# Altium schematic symbol library base.SchLib: 14 symbols
Pins are listed as number, name and electrical type; pins without a type are passive.

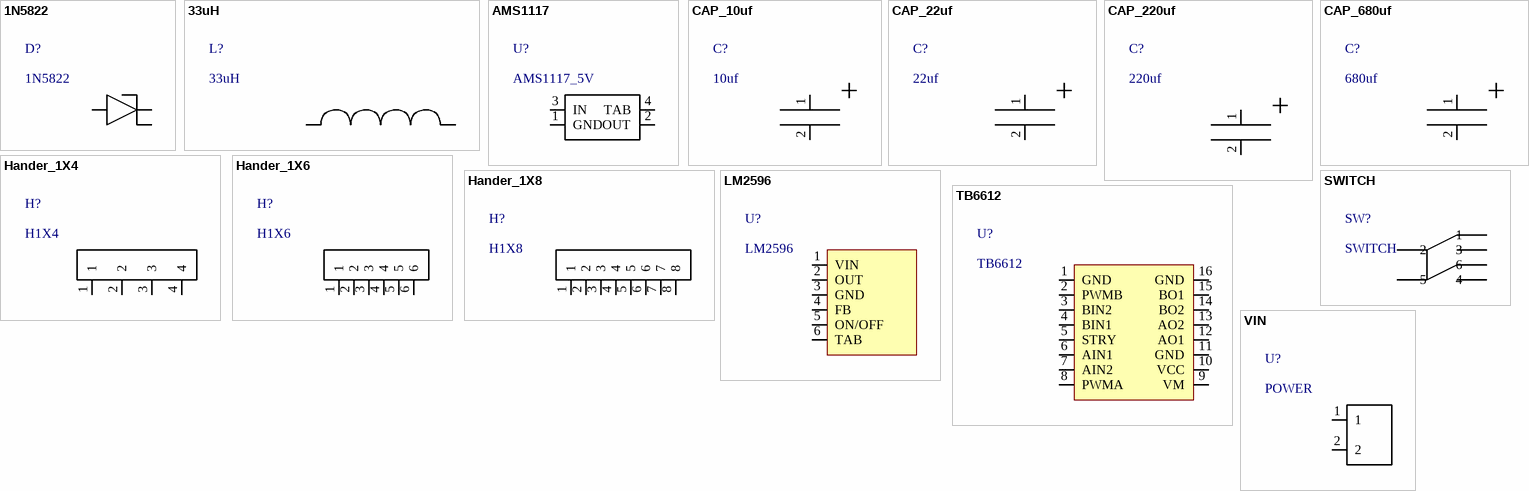
[diagram p0: symbols 1N5822 to VIN]

## 1N5822
designator D?
footprint DO-201AD_BD5.3-L8.4-P12.50-D1.4-RD
pins: 1, 2

## 33uH
designator L?
footprint IND-SMD_L12.5-W12.5_SWRH1207B
pins: 1, 2

## AMS1117
designator U?, comment AMS1117_5V
footprint SOT-223_L6.5-W3.5-P2.30-LS7.0-BR
pins: 1 GND, 2 OUT, 3 IN, 4 TAB

## CAP_10uf
designator C?, comment 10uf
footprint CAP-CASE-A_3216
pins: 1, 2
text: +

## CAP_22uf
designator C?, comment 22uf
footprint CASE-B_3528
pins: 1, 2
text: +

## CAP_220uf
designator C?, comment 220uf
footprint CAP-SMD_BD6.3-L6.6-W6.6-FD
pins: 1, 2
text: +

## CAP_680uf
designator C?, comment 680uf
footprint CAP-SMD_BD10.0-L10.3-W10.3-FD
pins: 1, 2
text: +

## Hander_1X4
designator H?, comment H1X4
footprint HDR-TH_4P-P2.54-V
pins: 1, 2, 3, 4

## Hander_1X6
designator H?, comment H1X6
footprint HDR-TH_6P-P2.54-V
pins: 1, 2, 3, 4, 5, 6

## Hander_1X8
designator H?, comment H1X8
footprint HDR-TH_8P-P2.54-V
pins: 1, 2, 3, 4, 5, 6, 7, 8

## LM2596
designator U?
footprint TO-263-5
pins: 1 VIN, 2 OUT, 3 GND, 4 FB, 5 ON/OFF, 6 TAB

## SWITCH
designator SW?
footprint KEY-6X6
pins: 1, 2, 3, 4, 5, 6

## TB6612
designator U?
footprint BT6612椹卞姩妯″潡
pins: 1 GND, 2 PWMB, 3 BIN2, 4 BIN1, 5 STRY, 6 AIN1, 7 AIN2, 8 PWMA, 9 VM, 10 VCC, 11 GND, 12 AO1, 13 AO2, 14 BO2, 15 BO1, 16 GND

## VIN
designator U?, comment POWER
pins: 1, 2